# Altium footprint library USBtyoe-c.PcbLib: 1 footprints
Each footprint in its own frame and in the unit in brackets; x right, y up, seen from the top. Pads: shape width x height; smd on the part's side, far side on the other; paste and mask are expansions set on the pad; w line width, h text height; cw(c..) or ccw(c..) is an arc to the next point about the centre after c.
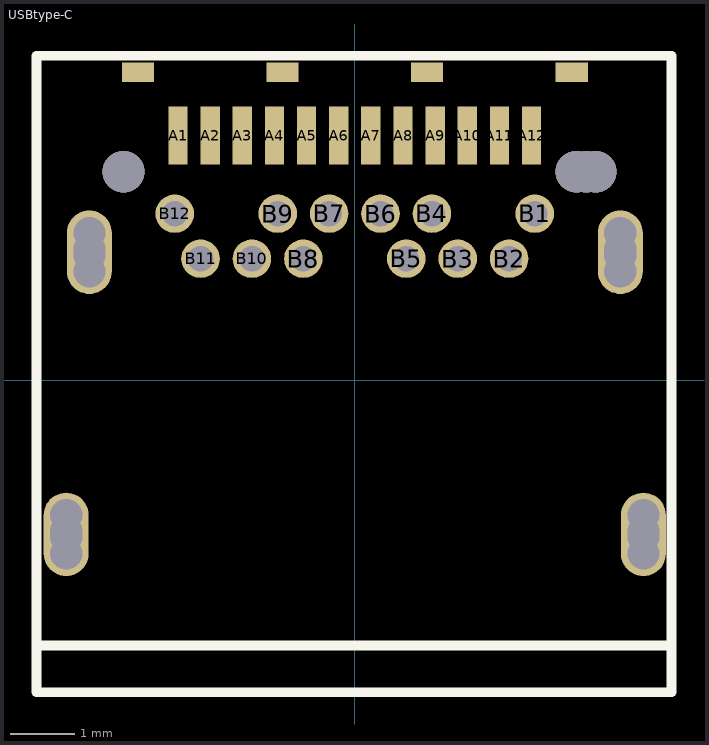
[diagram p0: the footprint, top view; thin cyan lines are the x and y axes]

## USBtype-C [mm] "USBtypeC母座"
pads (44):
  rect 0.3x0.9 smd: A1(-2.75,3.81) A2(-2.25,3.81) A3(-1.75,3.81) A4(-1.25,3.81) A5(-0.75,3.81) A6(-0.25,3.81) A7(0.25,3.81) A8(0.75,3.81) A9(1.25,3.81) A10(1.75,3.81) A11(2.25,3.81) A12(2.75,3.81)
  round 0.6 hole 0.4: B1(2.8,2.595) B2(2.4,1.895) B3(1.6,1.895) B4(1.2,2.595) B5(0.8,1.895) B6(0.4,2.595) B7(-0.4,2.595) B8(-0.8,1.895) B9(-1.2,2.595) B10(-1.6,1.895) B11(-2.4,1.895) B12(-2.8,2.595)
  round 0.7 hole 0.5: ""(-4.49,-2.695) ""(-4.49,-2.095) ""(-4.13,1.695) ""(-4.13,2.295) ""(4.13,1.695) ""(4.13,2.295) ""(4.49,-2.695) ""(4.49,-2.095)
  rect 0.7x0.5 hole 0.5 square: ""(-4.49,-2.435) ""(-4.49,-2.345) ""(-4.13,1.945) ""(-4.13,2.045) ""(4.13,1.945) ""(4.13,2.045) ""(4.49,-2.435) ""(4.49,-2.345)
  rect 0.5x0.3 smd: ""(-3.375,4.795) ""(-1.125,4.795) ""(1.125,4.795) ""(3.375,4.795)
via -3.6,3.245 diameter 0.65 hole 0.65
via 3.75,3.245 diameter 0.65 hole 0.65
via 3.45,3.245 diameter 0.65 hole 0.65
via 3.6,3.245 diameter 0.65 hole 0.65
Top Overlay:
  lines w0.152: -4.95,-4.85 -4.95,5.05 4.925,5.05 ; -4.95,-4.126 4.925,-4.126 ; -4.925,-4.85 4.925,-4.85 4.925,5.044